# Altium footprint library 2929SQ331GEC.PcbLib: 1 footprints
Each footprint in its own frame and in the unit in brackets; x right, y up, seen from the top. Pads: shape width x height; smd on the part's side, far side on the other; paste and mask are expansions set on the pad; w line width, h text height; cw(c..) or ccw(c..) is an arc to the next point about the centre after c.
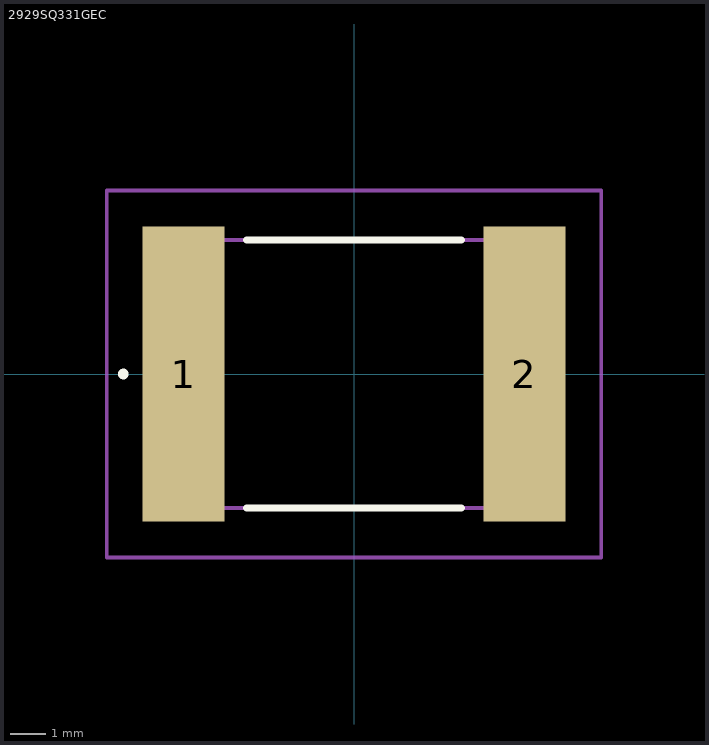
[diagram p0: the footprint, top view; thin cyan lines are the x and y axes]

## 2929SQ331GEC [mm]
pads (2):
  rect 2.29x8.26 smd: 1(-4.765,0) 2(4.765,0)
Top Overlay:
  lines w0.2: -6.5,0 cw(c-6.45,0) -6.4,0 ; -6.5,0 -6.5,0 ; -6.5,0 ccw(c-6.45,0) -6.4,0 ; -6.5,0 cw(c-6.45,0) -6.4,0 ; -6.4,0 -6.4,0 ; -6.4,0 -6.4,0 ; -3,-3.745 3,-3.745 ; -3,-3.745 3,-3.745 ; -3,-3.745 -3,-3.745 ; -3,3.745 3,3.745 ; -3,3.745 -3,3.745 ; -3,3.745 3,3.745 ; 3,-3.745 3,-3.745 ; 3,3.745 3,3.745
Mechanical 15:
  lines w0.1: -5.145,-3.745 5.145,-3.745 5.145,3.745 -5.145,3.745 -5.145,-3.745
Mechanical 20:
  lines w0.1: -6.91,-5.13 6.91,-5.13 6.91,5.13 -6.91,5.13 -6.91,-5.13